# Altium footprint library Seeed-OPL-Connector.PCBLIB: 183 footprints (part 5 of 12)
Each footprint in its own frame and in the unit in brackets; x right, y up, seen from the top. Pads: shape width x height; smd on the part's side, far side on the other; paste and mask are expansions set on the pad; w line width, h text height; cw(c..) or ccw(c..) is an arc to the next point about the centre after c.
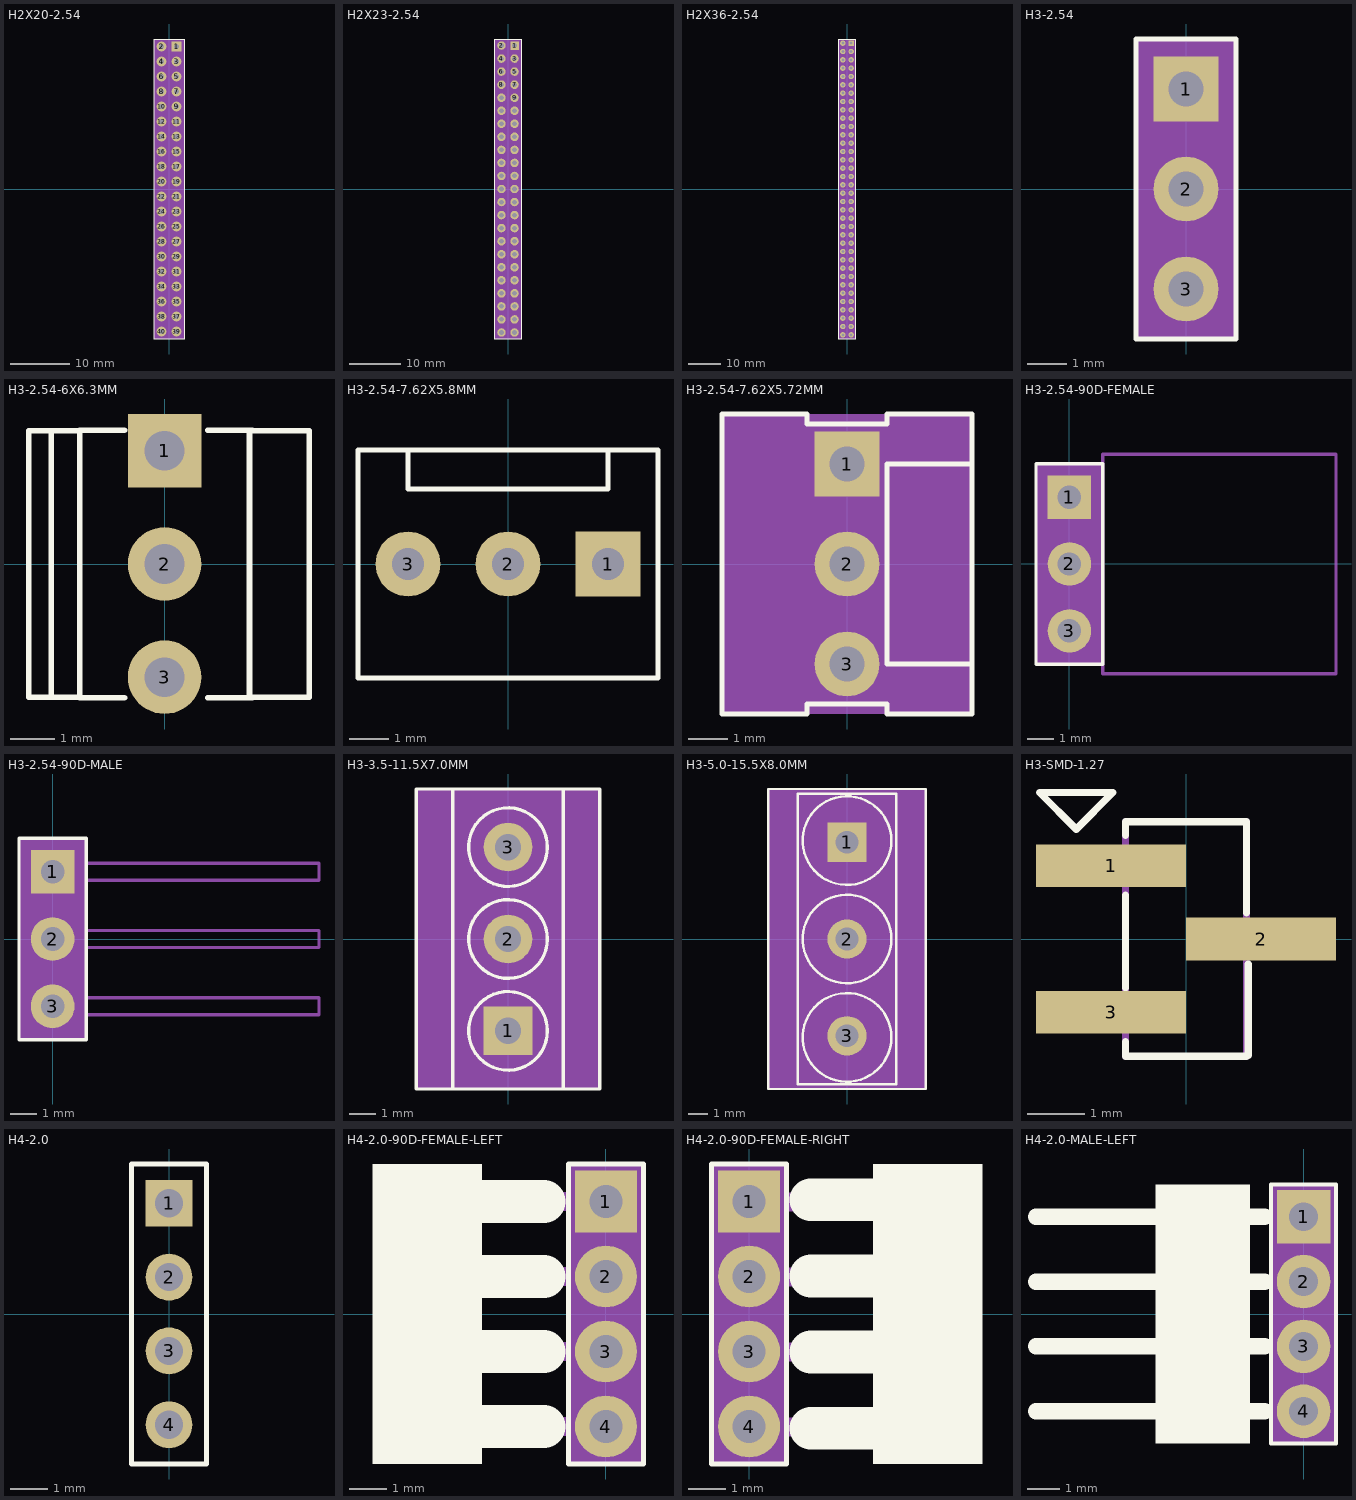
[diagram p4: the footprints below, top view; thin cyan lines are the x and y axes]

## H2X20-2.54 [mil]
pads (40):
  rect 65x65 hole 35: 1(50,950)
  round 65 hole 35: 2(-50,950) 3(50,850) 4(-50,850) 5(50,750) 6(-50,750) 7(50,650) 8(-50,650) 9(50,550) 10(-50,550) 11(50,450) 12(-50,450) 13(50,350) 14(-50,350) 15(50,250) 16(-50,250) 17(50,150) 18(-50,150) 19(50,50) 20(-50,50) 21(50,-50) 22(-50,-50) 23(50,-150) 24(-50,-150) 25(50,-250) 26(-50,-250) 27(50,-350) 28(-50,-350) 29(50,-450) 30(-50,-450) 31(50,-550) 32(-50,-550) 33(50,-650) 34(-50,-650) 35(50,-750) 36(-50,-750) 37(50,-850) 38(-50,-850) 39(50,-950) 40(-50,-950)
Top Overlay:
  lines w5: -100,-1000 -100,1000 100,1000 100,-1000 -100,-1000
Bottom Overlay:
  lines w5: -100,-1000 100,-1000 100,1000 -100,1000
Mechanical 27:
  rectangle: -100,-1000 100,1000

## H2X23-2.54 [mil]
pads (46):
  rect 65x65 hole 35: 1(50,1100)
  round 65 hole 35: 2(-50,1100) 3(50,1000) 4(-50,1000) 5(50,900) 6(-50,900) 7(50,800) 8(-50,800) 9(50,700) 10(-50,700) 11(50,600) 12(-50,600) 13(50,500) 14(-50,500) 15(50,400) 16(-50,400) 17(50,300) 18(-50,300) 19(50,200) 20(-50,200) 21(50,100) 22(-50,100) 23(50,0) 24(-50,0) 25(50,-100) 26(-50,-100) 27(50,-200) 28(-50,-200) 29(50,-300) 30(-50,-300) 31(50,-400) 32(-50,-400) 33(50,-500) 34(-50,-500) 35(50,-600) 36(-50,-600) 37(50,-700) 38(-50,-700) 39(50,-800) 40(-50,-800) 41(50,-900) 42(-50,-900) 43(50,-1000) 44(-50,-1000) 45(50,-1100) 46(-50,-1100)
Top Overlay:
  lines w5: -100,-1150 -100,1150 100,1150 100,-1150 -100,-1150
Bottom Overlay:
  lines w5: -100,-1150 100,-1150 100,1150 -100,1150 -100,-1150
Mechanical 27:
  rectangle: -100,-1150 100,1150

## H2X36-2.54 [mil]
pads (72):
  rect 65x65 hole 35: 1(50,1750)
  round 65 hole 35: 2(-50,1750) 3(50,1650) 4(-50,1650) 5(50,1550) 6(-50,1550) 7(50,1450) 8(-50,1450) 9(50,1350) 10(-50,1350) 11(50,1250) 12(-50,1250) 13(50,1150) 14(-50,1150) 15(50,1050) 16(-50,1050) 17(50,950) 18(-50,950) 19(50,850) 20(-50,850) 21(50,750) 22(-50,750) 23(50,650) 24(-50,650) 25(50,550) 26(-50,550) 27(50,450) 28(-50,450) 29(50,350) 30(-50,350) 31(50,250) 32(-50,250) 33(50,150) 34(-50,150) 35(50,50) 36(-50,50) 37(50,-50) 38(-50,-50) 39(50,-150) 40(-50,-150) 41(50,-250) 42(-50,-250) 43(50,-350) 44(-50,-350) 45(50,-450) 46(-50,-450) 47(50,-550) 48(-50,-550) 49(50,-650) 50(-50,-650) 51(50,-750) 52(-50,-750) 53(50,-850) 54(-50,-850) 55(50,-950) 56(-50,-950) 57(50,-1050) 58(-50,-1050) 59(50,-1150) 60(-50,-1150) 61(50,-1250) 62(-50,-1250) 63(50,-1350) 64(-50,-1350) 65(50,-1450) 66(-50,-1450) 67(50,-1550) 68(-50,-1550) 69(50,-1650) 70(-50,-1650) 71(50,-1750) 72(-50,-1750)
Top Overlay:
  lines w5: -100,-1800 -100,1800 100,1800 100,-1800 -100,-1800
Bottom Overlay:
  lines w5: -100,-1800 100,-1800 100,1800 -100,1800 -100,-1800
Mechanical 27:
  rectangle: -100,-1800 100,1800

## H3-2.54 [mil]
pads (3):
  rect 65x65 hole 35: 1(0,100)
  round 65 hole 35: 2(0,0) 3(0,-100)
Top Overlay:
  lines w5: -50,-150 50,-150 50,150 -50,150 -50,-150
Mechanical 27:
  rectangle: -50,-150 50,150
  lines w0: -50,-150 50,-150 50,150 -50,150 -50,-150

## H3-2.54-6X6.3MM [mil]
pads (3):
  rect 65x65 hole 35: 1(0,100)
  round 65 hole 35: 2(0,0) 3(0,-100)
Top Overlay:
  lines w5: -74.8,-118.11 -35.43,-118.11 ; -74.8,118.11 -35.43,118.11 ; 38.19,-118.11 77.56,-118.11 ; 38.19,118.11 77.56,118.11 ; -100,-117.72 -120.08,-117.72 -120.08,117.72 -100,117.72 ; -100,-117.72 -75,-117.72 -75,117.72 -100,117.72 ; -100,-117.72 -100,117.72 ; 75,-117.72 127.95,-117.72 127.95,117.72 75,117.72 75,-117.72

## H3-2.54-7.62X5.8MM [mil]
pads (3):
  rect 65x65 hole 32: 1(100,0)
  round 65 hole 32: 2(0,0) 3(-100,0)
Top Overlay:
  lines w5: -100,114.17 -150,114.17 -150,-114.17 150,-114.17 150,114.17 100,114.17 ; -100,114.17 100,114.17 ; -100,114.17 -100,74.8 100,74.8 100,114.17

## H3-2.54-7.62X5.72MM [mil]
pads (3):
  rect 65x65 hole 35: 1(0,100)
  round 65 hole 35: 2(0,0) 3(0,-100)
Top Overlay:
  lines w5: 125,-100 125,-150 40,-150 40,-140 -40,-140 -40,-150 -125,-150 -125,150 -40,150 -40,140 40,140 40,150 125,150 125,100 ; 125,-100 125,100 ; 125,-100 40,-100 40,100 125,100
Mechanical 27:
  rectangle: -125,-150 125,150

## H3-2.54-90D-FEMALE [mil]
pads (3):
  rect 65x65 hole 35: 1(0,100)
  round 65 hole 35: 2(0,0) 3(0,-100)
Top Overlay:
  lines w5: -50,-150 50,-150 50,150 -50,150 -50,-150
Mechanical 14:
  lines w5: 50,0 50,164.17 398.43,164.17 398.43,0 ; 50.04,-0.04 50.04,-164.21 398.46,-164.21 398.46,-0.04
Mechanical 27:
  rectangle: -50,-150 50,150
  lines w0: -50,-150 50,-150 50,150 -50,150 -50,-150

## H3-2.54-90D-MALE [mil]
pads (3):
  rect 65x65 hole 35: 1(0,100)
  round 65 hole 35: 2(0,0) 3(0,-100)
Top Overlay:
  lines w5: -50,-150 50,-150 50,150 -50,150 -50,-150
Mechanical 14:
  lines w5: 50,-112.6 50,-87.4 396.06,-87.4 396.06,-112.6 50,-112.6 ; 50,-12.6 50,12.6 396.06,12.6 396.06,-12.6 50,-12.6 ; 50,87.4 50,112.6 396.06,112.6 396.06,87.4 50,87.4
Mechanical 27:
  rectangle: -50,-150 50,150
  lines w0: -50,-150 50,-150 50,150 -50,150 -50,-150

## H3-3.5-11.5X7.0MM [mm]
pads (3):
  rect 1.85x1.85 hole 1: 1(0,-3.5)
  round 1.85 hole 1: 2(0,0) 3(0,3.5)
Top Overlay:
  circle w0.127: c0,0 r1.5
  circle w0.127: c0,3.5 r1.5
  circle w0.127: c0,-3.5 r1.5
  lines w0.127: -2.1,-5.715 -3.5,-5.715 -3.5,5.715 -2.1,5.715 ; -2.1,-5.715 -2.1,5.715 ; -2.1,-5.715 2.1,-5.715 ; -2.1,5.715 2.1,5.715 ; 2.1,-5.715 3.5,-5.715 3.5,5.715 2.1,5.715 ; 2.1,-5.715 2.1,5.715
Mechanical 27:
  rectangle: -3.492,-5.715 3.492,5.715

## H3-5.0-15.5X8.0MM [mil]
pads (3):
  rect 80x80 hole 46: 1(0,196.85)
  round 80 hole 46: 2(0,0) 3(0,-196.85)
Top Overlay:
  circle w5: c0,200 r90.14
  circle w5: c0,0 r90.14
  circle w5: c0,-200 r90.14
  lines w5: -160,-305 160,-305 160,305 -160,305 -160,-305 ; -100,-295 100,-295 100,295 -100,295 -100,-295
Mechanical 27:
  rectangle: -160,-305 160,305

## H3-SMD-1.27 [mil]
pads (3):
  rect 102.36x29.13 smd: 1(-51.18,50) 2(51.18,0) 3(-51.18,-50)
Top Overlay:
  region: 0,0 10,0 10,10 0,10
  lines w5: -41.34,-79.92 41.34,-79.92 ; -41.34,-79.13 -41.34,-70.08 ; -41.34,-33.46 -41.34,29.92 ; -41.34,70.87 -41.34,79.92 41.34,79.92 41.34,17.72 ; 42.52,-79.53 42.52,-17.32 ; -100,100 -50,100 -75,75 -100,100
Mechanical 16:
  lines w5: -41.34,-79.92 -41.34,79.92 ; 41.34,-79.92 41.34,79.92

## H4-2.0 [mil]
pads (4):
  rect 50x50 hole 30: 1(0,118.11)
  round 50 hole 30: 2(0,39.37) 3(0,-39.37) 4(0,-118.11)
Top Overlay:
  lines w5: -40,-160 40,-160 40,160 -40,160 -40,-160

## H4-2.0-90D-FEMALE-LEFT [mil]
pads (4):
  rect 65x65 hole 35: 1(0,118.11)
  round 65 hole 35: 2(0,39.37) 3(0,-39.37) 4(0,-118.11)
Top Overlay:
  rectangle: -245,-157.48 -130,157.48
  lines w5: -39.37,-157.48 39.37,-157.48 39.37,157.48 -39.37,157.48 -39.37,-157.48
  lines w45: -130,-118.11 -65,-118.11 ; -130,-39.37 -65,-39.37 ; -130,39.37 -65,39.37 ; -130,118.11 -65,118.11
Mechanical 16:
  lines w20: -65,-118.11 0,-118.11 ; -65,-39.37 0,-39.37 ; -65,39.37 0,39.37 ; -65,118.11 0,118.11
Mechanical 27:
  rectangle: -39.37,-157.48 39.37,157.48

## H4-2.0-90D-FEMALE-RIGHT [mil]
pads (4):
  rect 65x65 hole 35: 1(0,118.11)
  round 65 hole 35: 2(0,39.37) 3(0,-39.37) 4(0,-118.11)
Top Overlay:
  rectangle: 130,-157.48 245,157.48
  lines w5: -39.37,-157.48 39.37,-157.48 39.37,157.48 -39.37,157.48 -39.37,-157.48
  lines w45: 65,-120 130,-120 ; 65,-40 130,-40 ; 65,40 130,40 ; 65,120 130,120
Mechanical 16:
  lines w20: 0,-118.72 65,-118.72 ; 0,-39.98 65,-39.98 ; 0,38.76 65,38.76 ; 0,117.5 65,117.5
Mechanical 27:
  rectangle: -39.37,-157.48 39.37,157.48

## H4-2.0-MALE-LEFT [mil]
pads (4):
  rect 65x65 hole 35: 1(0,118.11)
  round 65 hole 35: 2(0,39.37) 3(0,-39.37) 4(0,-118.11)
Top Overlay:
  rectangle: -180,-157.48 -65,157.48
  lines w5: -39.37,-157.48 39.37,-157.48 39.37,157.48 -39.37,157.48 -39.37,-157.48
  lines w20: -325,-118.11 -180,-118.11 ; -325,-39.37 -180,-39.37 ; -325,39.37 -180,39.37 ; -325,118.11 -180,118.11 ; -65,-118.11 -47.24,-118.11 ; -65,-39.37 -47.24,-39.37 ; -65,39.37 -47.24,39.37 ; -65,118.11 -47.24,118.11
Mechanical 27:
  rectangle: -39.37,-157.48 39.37,157.48